# Altium integrated library PTPS16410DRCR.IntLib: 1 symbol
Pins are listed as number, name and electrical type; pins without a type are passive.

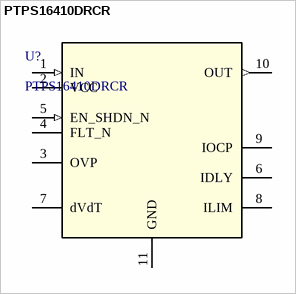
[diagram p0: symbol PTPS16410DRCR]

## PTPS16410DRCR
designator U?
2.7-V to 40-V, 152-mÎ©, 1.8-A eFuse with output power limiting 10-VSON -40 to 125; Manufacturer_Name: Texas Instruments; TYPE: TYPE; RefDes: RefDes; Copyright: Copyright (C) 2026 Ultra Librarian. All rights reserved.; Manufacturer_Part_Number: PTPS16410DRCR
footprint DRC0010J-IPC_A
pins: 1 IN (in), 2 VCC (power), 3 OVP, 4 FLT_N (oc), 5 EN_SHDN_N (in), 6 IDLY, 7 dVdT, 8 ILIM, 9 IOCP, 10 OUT (out), 11 GND (power)